# EAGLE library part LV-EZX-MAXSONAR (library KWC_parts-3)
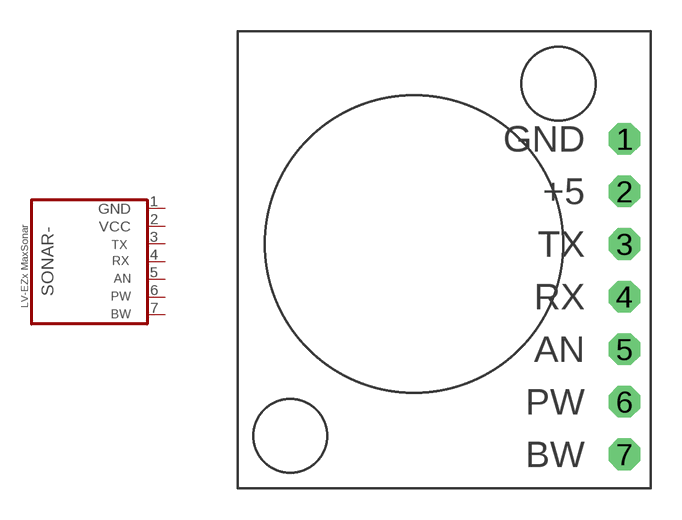
[diagram p0: symbol with the pads of LV-EZX-MAXSONAR; footprint LV-EZX-MAXSONAR]

Designator prefix SONAR-

## LV-EZX-MAXSONAR  [LV-EZX-MAXSONAR]
1  GND  pwr
2  VCC  pwr
3  3  pas
4  4  pas
5  5  pas
6  6  pas
7  7  pas

## Footprint LV-EZX-MAXSONAR (pad centres in mm)
drill 1.016 octagon: 1 0,15.24; 2 0,12.7; 3 0,10.16; 4 0,7.62; 5 0,5.08; 6 0,2.54; 7 0,0